# EAGLE library part ESP_LOLIN (library ESP_lolin)
ESP12 DEVKIT BOARD
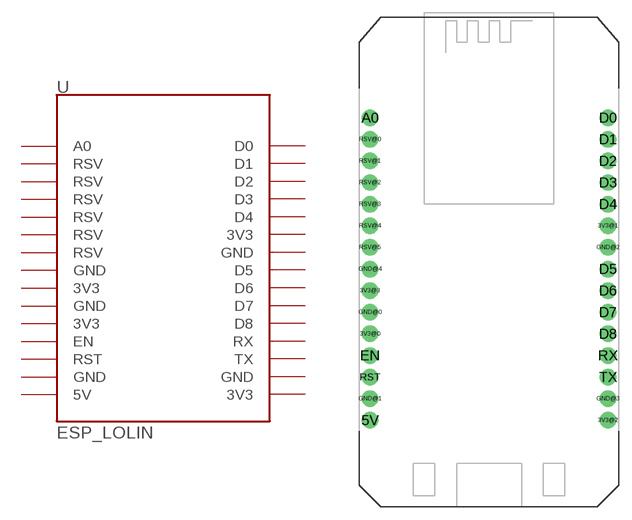
[diagram p0: symbol with the pads of ESP_LOLIN; footprint ESP_LOLIN]

Designator prefix -

## ESP_LOLIN  [ESP_LOLIN]
3V3@0  3V3
3V3@1  3V3
3V3@2  3V3
3V3@3  3V3
5V  5V
A0  A0
D0  D0
D1  D1
D2  D2
D3  D3
D4  D4
D5  D5
D6  D6
D7  D7
D8  D8
EN  EN
GND@0  GND
GND@1  GND
GND@2  GND
GND@3  GND
GND@4  GND
RST  RST
RSV@0  RSV
RSV@1  RSV
RSV@2  RSV
RSV@3  RSV
RSV@4  RSV
RSV@5  RSV
RX  RX
TX  TX

## Footprint ESP_LOLIN (pad centres in mm)
ESP12_DEVKIT
drill 0.8 pad 1.93: 3V3@0 -13.97,-7.62; 3V3@1 13.97,5.08; 3V3@2 13.97,-17.78; 3V3@3 -13.97,-2.54; 5V -13.97,-17.78; A0 -13.97,17.78; D0 13.97,17.78; D1 13.97,15.24; D2 13.97,12.7; D3 13.97,10.16; D4 13.97,7.62; D5 13.97,0; D6 13.97,-2.54; D7 13.97,-5.08; D8 13.97,-7.62; EN -13.97,-10.16; GND@0 -13.97,-5.08; GND@1 -13.97,-15.24; GND@2 13.97,2.54; GND@3 13.97,-15.24; GND@4 -13.97,0; RST -13.97,-12.7; RSV@0 -13.97,15.24; RSV@1 -13.97,12.7; RSV@2 -13.97,10.16; RSV@3 -13.97,7.62; RSV@4 -13.97,5.08; RSV@5 -13.97,2.54; RX 13.97,-10.16; TX 13.97,-12.7